# Altium integrated library ERA-8AEB151V.IntLib: 1 symbol
Pins are listed as number, name and electrical type; pins without a type are passive.

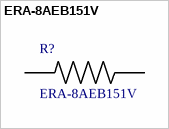
[diagram p0: symbol ERA-8AEB151V]

## ERA-8AEB151V
designator R?
/ RES SMD 150 OHM 0.1% 1/4W 1206 /; MF: Panasonic; SnapEDA_Link: https://www.snapeda.com/parts/ERA-8AEB151V/Panasonic%20Electronic%20Components/view-part/?ref=snap; Availability: Unavailable; Price: None; MP: ERA-8AEB151V; Package: 3216 Panasonic Electronic Components; Value: *
footprint *RESC3216X70N
pins: 1, 2